# EAGLE library part 3X2 (library Customs)
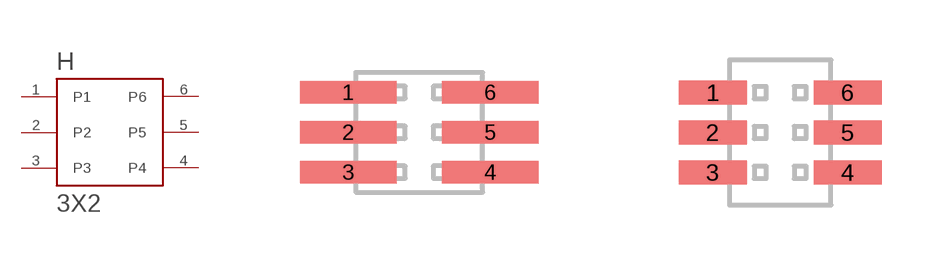
[diagram p0: symbol with the pads of 3X2M_1MM_SMD; footprints 3X2M_1MM_SMD, 3X2F_1MM_SMD]

Designator prefix H

## 3X2M_1MM_SMD  [3X2M_1MM_SMD]
1  P1
2  P2
3  P3
4  P4
5  P5
6  P6

## 3X2F_1MM_SMD  [3X2F_1MM_SMD]
Pads as for 3X2M_1MM_SMD

## 3X2F_1MM_PASSTHROUGH_SMD  [3X2F_1MM_PASSTHROUGH_SMD]
Pads as for 3X2M_1MM_SMD

## Footprint 3X2M_1MM_SMD (pad centres in mm)
smd 2.413 x 0.559: 1 -1.778,1; 2 -1.778,0; 3 -1.778,-1; 4 1.778,-1; 5 1.778,0; 6 1.778,1

## Footprint 3X2F_1MM_SMD (pad centres in mm)
smd 1.702 x 0.61: 1 -1.689,1; 2 -1.689,0; 3 -1.689,-1; 4 1.689,-1; 5 1.689,0; 6 1.689,1

## Footprint 3X2F_1MM_PASSTHROUGH_SMD (pad centres in mm)
smd 1.372 x 0.61: 1 -1.854,1; 2 -1.854,0; 3 -1.854,-1; 4 1.854,-1; 5 1.854,0; 6 1.854,1
hole 0.559 at -0.5,1
hole 0.559 at 0.5,1
hole 0.559 at -0.5,0
hole 0.559 at 0.5,0
hole 0.559 at -0.5,-1
hole 0.559 at 0.5,-1